# Altium integrated library Linear Technology Power Management PMIC Multifunction.IntLib: 360 symbols (part 22 of 42)
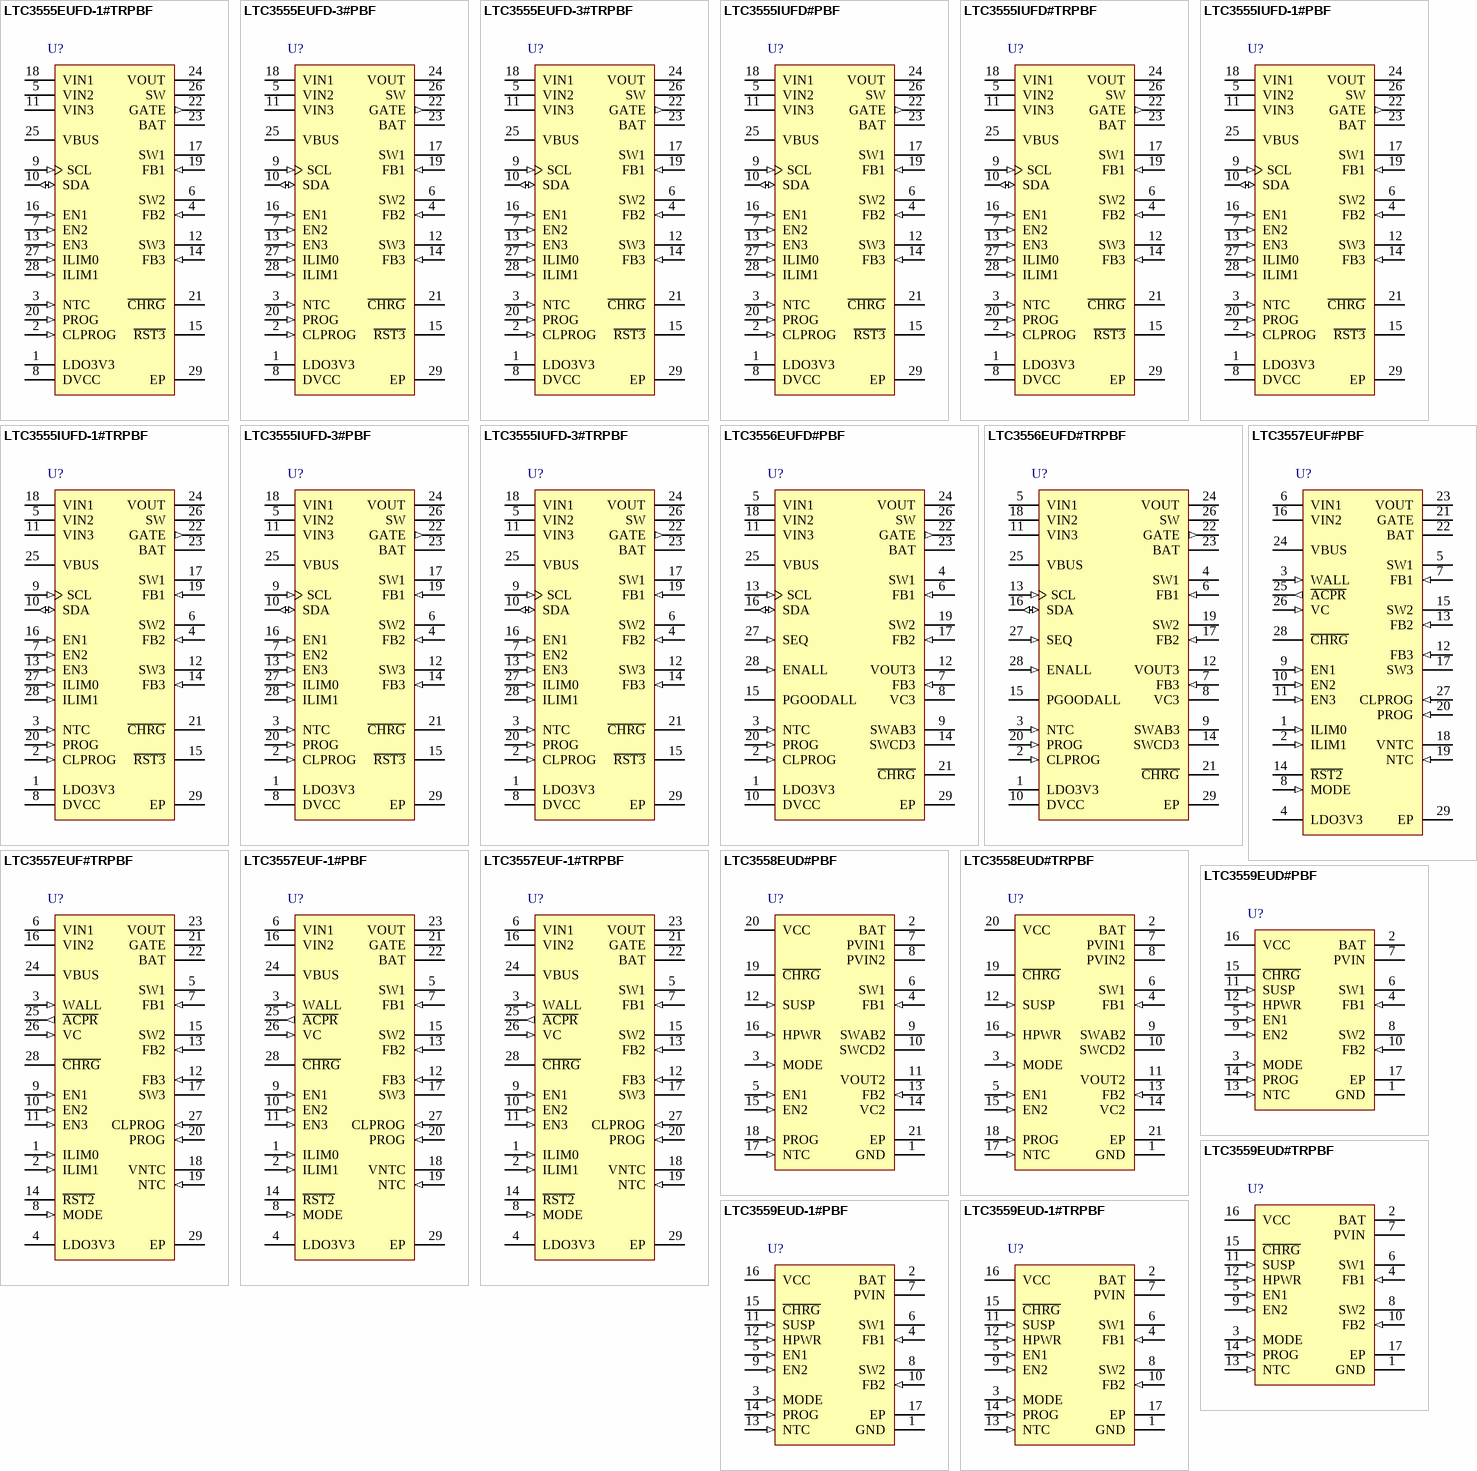
[diagram p39: symbols LTC3555EUFD-1#TRPBF to LTC3559EUD-1#TRPBF]

## LTC3555IUFD-1#PBF
designator U?
High Efficiency USB Power Manager + Triple Step-Down DC/DC, 4.35 to 5.5 V Vin, 28-pin QFN (UFD-28), -40 to 85 degC, Pb-Free; Manufacturer: Linear Technology; PartNumber: LTC3555IUFD-1#PBF; Number of Cells: 1; Number of Outputs: 4; Vin Max(V): 5.5; Vin Min(V): 4.35; DatasheetVersion: Rev. D; PackageVersion: Rev. B, 06/2010; PackageReference: UFD-28; PackageDescription: 28-Pin Plastic QFN, Body 5 x 4 mm, Pitch 0.5 mm; Supplier 1: Digi-Key; Supplier Part Number 1: LTC3555IUFD-1#PBF-ND; Supplier 2: Farnell; Supplier Part Number 2: 2295476; RoHS: TRUE; Mounting Technology: Surface Mount; Code_JEDEC: MO-220; ComponentLink1Description: Manufacturer URL; ComponentLink1URL: http://www.linear.com/; ComponentLink2Description: Datasheet; ComponentLink2URL: http://cds.linear.com/docs/en/datasheet/3555fd.pdf; ComponentLink3Description: Package Specification; ComponentLink3URL: http://cds.linear.com/docs/en/packaging/QFN_28_05-08-1712.pdf
footprint LT-UFD-28_N (QFN, 28-Leads, Body 5.1x4.1mm, Pitch 0.5mm, Thermal Pad 3.65x2.65mm, IPC Medium Density)
footprint LT-UFD-28_L (QFN, 28-Leads, Body 5.1x4.1mm, Pitch 0.5mm, Thermal Pad 3.65x2.65mm, IPC High Density)
footprint LT-UFD-28_M (QFN, 28-Leads, Body 5.1x4.1mm, Pitch 0.5mm, Thermal Pad 3.65x2.65mm, IPC Low Density)
pins: 1 LDO3V3 (power) "3.3V LDO Output Pin. This pin provides a regulated always-on 3.3V supply voltage. LDO3V3 gets its power from VOUT. It may be used for light loads such as a watchdog microprocessor or real time clock. A 1uF capacitor is (See Datasheet)", 2 CLPROG (in) "USB Current Limit Program and Monitor Pin. A resistor from CLPROG to ground determines the upper limit of the current drawn from the VBUS pin. A fraction of the VBUS current is sent to the CLPROG pin when the synchronous (See Datasheet)", 3 NTC (in) "Input to the Thermistor Monitoring Circuits. The NTC pin connects to a battery’s thermistor to determine if the battery is too hot or too cold to charge. If the battery’s temperature is out of range, charging is pau(See Datasheet)", 4 FB2 (in) "Feedback Input for Switching Regulator 2. When regulator 2’s control loop is complete, this pin servos to 1 of 16 possible set-points based on the commanded value from the I2C serial port. See Table 4.", 5 VIN2 (power) "Power Input for Switching Regulator 2. This pin will generally be connected to VOUT. A 1uF MLCC capacitor is recommended on this pin.", 6 SW2 (power) "Power Transmission Pin for Switching Regulator 2.", 7 EN2 (in) "Logic Input. This logic input pin independently enables switching regulator 2. This pin is logically OR-ed with its corresponding bit in the I2C serial port. See Table 2.", 8 DVCC (power) "Logic Supply for the I2C Serial Port. If the serial port is not needed it can be disabled by grounding DVCC. When DVCC is grounded, chip control is automatically passed to the individual logic input pins.", 9 SCL (in) "Clock Input Pin for the I2C Serial Port. The I2C logic levels are scaled with respect to DVCC. If DVCC is grounded, the SCL pin is equivalent to the B5 bit in the I2C serial port. SCL in conjunction with SDA determine the (See Datasheet)", 10 SDA (io) "Data Input Pin for the I2C Serial Port. The I2C logic levels are scaled with respect to DVCC. If DVCC is grounded, the SDA pin is equivalent to the B6 bit in the I2C serial port. SDA in conjunction with SCL determine the (See Datasheet)", 11 VIN3 (power) "Power Input for Switching Regulator 3. This pin will generally be connected to VOUT. A 1uF MLCC capacitor is recommended on this pin.", 12 SW3 (power) "Power Transmission Pin for Switching Regulator 3.", 13 EN3 (in) "Logic Input. This logic input pin independently enables switching regulator 3. This pin is logically OR-ed with its corresponding bit in the I2C serial port. See Table 2.", 14 FB3 (in) "Feedback Input for Switching Regulator 3. When regulator 3’s control loop is complete, this pin servos to 1 of 16 possible set-points based on the commanded value from the I2C serial port. See Table 4.", 15 ~{RST3} (oc) "Logic Output. This in an open-drain output which indicates that switching regulator 3 has settled to its final value. It can be used as a power-on reset for the primary microprocessor or to enable the other switching (See Datasheet)", 16 EN1 (in) "Logic Input. This logic input pin independently enables switching regulator 1. This pin is logically OR-ed with its corresponding bit in the I2C serial port. See Table 2.", 17 SW1 (power) "Power Transmission Pin for Switching Regulator 1.", 18 VIN1 (power) "Power Input for Switching Regulator 1. This pin will generally be connected to VOUT. A 1uF MLCC capacitor is recommended on this pin.", 19 FB1 (in) "Feedback Input for Switching Regulator 1. When regulator 1’s control loop is complete, this pin servos to a fixed voltage of 0.8V.", 20 PROG (in) "Charge Current Program and Charge Current Monitor Pin. Connecting a resistor from PROG to ground programs the charge current. If sufficient input power is available in constant-current mode, this pin servos to 1V. The (See Datasheet)", 21 ~{CHRG} (hiz) "Open-Drain Charge Status Output. The C\H\R\G\ pin indicates the status of the battery charger. Four possible states are represented by C\H\R\G\: charging, not charging, unresponsive battery and battery temperature out of (See Datasheet)", 22 GATE (out) "Analog Output. This pin controls the gate of an optional external P-channel MOSFET transistor used to supplement the ideal diode between VOUT and BAT. The external ideal diode operates in parallel with the internal ideal (See Datasheet)", 23 BAT (power) "Single Cell Li-Ion Battery Pin. Depending on available VBUS power, a Li-Ion battery on BAT will either deliver power to VOUT through the ideal diode or be charged from VOUT via the battery charger.", 24 VOUT (power) ""Output voltage of the Switching PowerPath Controller and Input Voltage of the Battery Charger. The majority of the portable product should be powered from VOUT. The LTC3555 family will partition the available power between (See Datasheet)", 25 VBUS (power) "Primary Input Power Pin. This pin delivers power to VOUT via the SW pin by drawing controlled current from a DC source such as a USB port or wall adapter.", 26 SW "Power Transmission Pin for the USB Power Path. The SW pin delivers power from VBUS to VOUT via the step-down switching regulator. A 3.3uH inductor should be connected from SW to VOUT.", 27 ILIM0 (in) "Logic Input. ILIM0 and ILIM1 control the current limit of the PowerPath switching regulator. See Table 3. Both of the ILIM0 and ILIM1 pins are logically OR-ed with their corresponding bits in the I2C serial port. See Table 2.", 28 ILIM1 (in) "Logic Input. ILIM0 and ILIM1 control the current limit of the PowerPath switching regulator. See Table 3. Both of the ILIM0 and ILIM1 pins are logically OR-ed with their corresponding bits in the I2C serial port. See Table 2.", 29 EP (power) "Ground. The Exposed Pad should be connected to a continuous ground plane on the second layer of the printed circuit board by several vias directly under the part."

## LTC3555IUFD-1#TRPBF
designator U?
High Efficiency USB Power Manager + Triple Step-Down DC/DC, 4.35 to 5.5 V Vin, 28-pin QFN (UFD-28), -40 to 85 degC, Pb-Free, Tape and Reel; Manufacturer: Linear Technology; PartNumber: LTC3555IUFD-1#TRPBF; Number of Cells: 1; Number of Outputs: 4; Vin Max(V): 5.5; Vin Min(V): 4.35; DatasheetVersion: Rev. D; PackageVersion: Rev. B, 06/2010; PackageReference: UFD-28; PackageDescription: 28-Pin Plastic QFN, Body 5 x 4 mm, Pitch 0.5 mm; Supplier 1: Digi-Key; Supplier Part Number 1: LTC3555IUFD-1#TRPBF-ND; Packing: Tape and Reel; RoHS: TRUE; Mounting Technology: Surface Mount; Code_JEDEC: MO-220; ComponentLink1Description: Manufacturer URL; ComponentLink1URL: http://www.linear.com/; ComponentLink2Description: Datasheet; ComponentLink2URL: http://cds.linear.com/docs/en/datasheet/3555fd.pdf; ComponentLink3Description: Package Specification; ComponentLink3URL: http://cds.linear.com/docs/en/packaging/QFN_28_05-08-1712.pdf
footprint LT-UFD-28_N (QFN, 28-Leads, Body 5.1x4.1mm, Pitch 0.5mm, Thermal Pad 3.65x2.65mm, IPC Medium Density)
footprint LT-UFD-28_L (QFN, 28-Leads, Body 5.1x4.1mm, Pitch 0.5mm, Thermal Pad 3.65x2.65mm, IPC High Density)
footprint LT-UFD-28_M (QFN, 28-Leads, Body 5.1x4.1mm, Pitch 0.5mm, Thermal Pad 3.65x2.65mm, IPC Low Density)
pins: 1 LDO3V3 (power) "3.3V LDO Output Pin. This pin provides a regulated always-on 3.3V supply voltage. LDO3V3 gets its power from VOUT. It may be used for light loads such as a watchdog microprocessor or real time clock. A 1uF capacitor is (See Datasheet)", 2 CLPROG (in) "USB Current Limit Program and Monitor Pin. A resistor from CLPROG to ground determines the upper limit of the current drawn from the VBUS pin. A fraction of the VBUS current is sent to the CLPROG pin when the synchronous (See Datasheet)", 3 NTC (in) "Input to the Thermistor Monitoring Circuits. The NTC pin connects to a battery’s thermistor to determine if the battery is too hot or too cold to charge. If the battery’s temperature is out of range, charging is pau(See Datasheet)", 4 FB2 (in) "Feedback Input for Switching Regulator 2. When regulator 2’s control loop is complete, this pin servos to 1 of 16 possible set-points based on the commanded value from the I2C serial port. See Table 4.", 5 VIN2 (power) "Power Input for Switching Regulator 2. This pin will generally be connected to VOUT. A 1uF MLCC capacitor is recommended on this pin.", 6 SW2 (power) "Power Transmission Pin for Switching Regulator 2.", 7 EN2 (in) "Logic Input. This logic input pin independently enables switching regulator 2. This pin is logically OR-ed with its corresponding bit in the I2C serial port. See Table 2.", 8 DVCC (power) "Logic Supply for the I2C Serial Port. If the serial port is not needed it can be disabled by grounding DVCC. When DVCC is grounded, chip control is automatically passed to the individual logic input pins.", 9 SCL (in) "Clock Input Pin for the I2C Serial Port. The I2C logic levels are scaled with respect to DVCC. If DVCC is grounded, the SCL pin is equivalent to the B5 bit in the I2C serial port. SCL in conjunction with SDA determine the (See Datasheet)", 10 SDA (io) "Data Input Pin for the I2C Serial Port. The I2C logic levels are scaled with respect to DVCC. If DVCC is grounded, the SDA pin is equivalent to the B6 bit in the I2C serial port. SDA in conjunction with SCL determine the (See Datasheet)", 11 VIN3 (power) "Power Input for Switching Regulator 3. This pin will generally be connected to VOUT. A 1uF MLCC capacitor is recommended on this pin.", 12 SW3 (power) "Power Transmission Pin for Switching Regulator 3.", 13 EN3 (in) "Logic Input. This logic input pin independently enables switching regulator 3. This pin is logically OR-ed with its corresponding bit in the I2C serial port. See Table 2.", 14 FB3 (in) "Feedback Input for Switching Regulator 3. When regulator 3’s control loop is complete, this pin servos to 1 of 16 possible set-points based on the commanded value from the I2C serial port. See Table 4.", 15 ~{RST3} (oc) "Logic Output. This in an open-drain output which indicates that switching regulator 3 has settled to its final value. It can be used as a power-on reset for the primary microprocessor or to enable the other switching (See Datasheet)", 16 EN1 (in) "Logic Input. This logic input pin independently enables switching regulator 1. This pin is logically OR-ed with its corresponding bit in the I2C serial port. See Table 2.", 17 SW1 (power) "Power Transmission Pin for Switching Regulator 1.", 18 VIN1 (power) "Power Input for Switching Regulator 1. This pin will generally be connected to VOUT. A 1uF MLCC capacitor is recommended on this pin.", 19 FB1 (in) "Feedback Input for Switching Regulator 1. When regulator 1’s control loop is complete, this pin servos to a fixed voltage of 0.8V.", 20 PROG (in) "Charge Current Program and Charge Current Monitor Pin. Connecting a resistor from PROG to ground programs the charge current. If sufficient input power is available in constant-current mode, this pin servos to 1V. The (See Datasheet)", 21 ~{CHRG} (hiz) "Open-Drain Charge Status Output. The C\H\R\G\ pin indicates the status of the battery charger. Four possible states are represented by C\H\R\G\: charging, not charging, unresponsive battery and battery temperature out of (See Datasheet)", 22 GATE (out) "Analog Output. This pin controls the gate of an optional external P-channel MOSFET transistor used to supplement the ideal diode between VOUT and BAT. The external ideal diode operates in parallel with the internal ideal (See Datasheet)", 23 BAT (power) "Single Cell Li-Ion Battery Pin. Depending on available VBUS power, a Li-Ion battery on BAT will either deliver power to VOUT through the ideal diode or be charged from VOUT via the battery charger.", 24 VOUT (power) ""Output voltage of the Switching PowerPath Controller and Input Voltage of the Battery Charger. The majority of the portable product should be powered from VOUT. The LTC3555 family will partition the available power between (See Datasheet)", 25 VBUS (power) "Primary Input Power Pin. This pin delivers power to VOUT via the SW pin by drawing controlled current from a DC source such as a USB port or wall adapter.", 26 SW "Power Transmission Pin for the USB Power Path. The SW pin delivers power from VBUS to VOUT via the step-down switching regulator. A 3.3uH inductor should be connected from SW to VOUT.", 27 ILIM0 (in) "Logic Input. ILIM0 and ILIM1 control the current limit of the PowerPath switching regulator. See Table 3. Both of the ILIM0 and ILIM1 pins are logically OR-ed with their corresponding bits in the I2C serial port. See Table 2.", 28 ILIM1 (in) "Logic Input. ILIM0 and ILIM1 control the current limit of the PowerPath switching regulator. See Table 3. Both of the ILIM0 and ILIM1 pins are logically OR-ed with their corresponding bits in the I2C serial port. See Table 2.", 29 EP (power) "Ground. The Exposed Pad should be connected to a continuous ground plane on the second layer of the printed circuit board by several vias directly under the part."

## LTC3555IUFD-3#PBF
designator U?
High Efficiency USB Power Manager + Triple Step-Down DC/DC, 4.35 to 5.5 V Vin, 28-pin QFN (UFD-28), -40 to 85 degC, Pb-Free; Manufacturer: Linear Technology; PartNumber: LTC3555IUFD-3#PBF; Number of Cells: 1; Number of Outputs: 4; Vin Max(V): 5.5; Vin Min(V): 4.35; DatasheetVersion: Rev. D; PackageVersion: Rev. B, 06/2010; PackageReference: UFD-28; PackageDescription: 28-Pin Plastic QFN, Body 5 x 4 mm, Pitch 0.5 mm; Supplier 1: Digi-Key; Supplier Part Number 1: LTC3555IUFD-3#PBF-ND; RoHS: TRUE; Mounting Technology: Surface Mount; Code_JEDEC: MO-220; ComponentLink1Description: Manufacturer URL; ComponentLink1URL: http://www.linear.com/; ComponentLink2Description: Datasheet; ComponentLink2URL: http://cds.linear.com/docs/en/datasheet/3555fd.pdf; ComponentLink3Description: Package Specification; ComponentLink3URL: http://cds.linear.com/docs/en/packaging/QFN_28_05-08-1712.pdf
footprint LT-UFD-28_N (QFN, 28-Leads, Body 5.1x4.1mm, Pitch 0.5mm, Thermal Pad 3.65x2.65mm, IPC Medium Density)
footprint LT-UFD-28_L (QFN, 28-Leads, Body 5.1x4.1mm, Pitch 0.5mm, Thermal Pad 3.65x2.65mm, IPC High Density)
footprint LT-UFD-28_M (QFN, 28-Leads, Body 5.1x4.1mm, Pitch 0.5mm, Thermal Pad 3.65x2.65mm, IPC Low Density)
pins: 1 LDO3V3 (power) "3.3V LDO Output Pin. This pin provides a regulated always-on 3.3V supply voltage. LDO3V3 gets its power from VOUT. It may be used for light loads such as a watchdog microprocessor or real time clock. A 1uF capacitor is (See Datasheet)", 2 CLPROG (in) "USB Current Limit Program and Monitor Pin. A resistor from CLPROG to ground determines the upper limit of the current drawn from the VBUS pin. A fraction of the VBUS current is sent to the CLPROG pin when the synchronous (See Datasheet)", 3 NTC (in) "Input to the Thermistor Monitoring Circuits. The NTC pin connects to a battery’s thermistor to determine if the battery is too hot or too cold to charge. If the battery’s temperature is out of range, charging is pau(See Datasheet)", 4 FB2 (in) "Feedback Input for Switching Regulator 2. When regulator 2’s control loop is complete, this pin servos to 1 of 16 possible set-points based on the commanded value from the I2C serial port. See Table 4.", 5 VIN2 (power) "Power Input for Switching Regulator 2. This pin will generally be connected to VOUT. A 1uF MLCC capacitor is recommended on this pin.", 6 SW2 (power) "Power Transmission Pin for Switching Regulator 2.", 7 EN2 (in) "Logic Input. This logic input pin independently enables switching regulator 2. This pin is logically OR-ed with its corresponding bit in the I2C serial port. See Table 2.", 8 DVCC (power) "Logic Supply for the I2C Serial Port. If the serial port is not needed it can be disabled by grounding DVCC. When DVCC is grounded, chip control is automatically passed to the individual logic input pins.", 9 SCL (in) "Clock Input Pin for the I2C Serial Port. The I2C logic levels are scaled with respect to DVCC. If DVCC is grounded, the SCL pin is equivalent to the B5 bit in the I2C serial port. SCL in conjunction with SDA determine the (See Datasheet)", 10 SDA (io) "Data Input Pin for the I2C Serial Port. The I2C logic levels are scaled with respect to DVCC. If DVCC is grounded, the SDA pin is equivalent to the B6 bit in the I2C serial port. SDA in conjunction with SCL determine the (See Datasheet)", 11 VIN3 (power) "Power Input for Switching Regulator 3. This pin will generally be connected to VOUT. A 1uF MLCC capacitor is recommended on this pin.", 12 SW3 (power) "Power Transmission Pin for Switching Regulator 3.", 13 EN3 (in) "Logic Input. This logic input pin independently enables switching regulator 3. This pin is logically OR-ed with its corresponding bit in the I2C serial port. See Table 2.", 14 FB3 (in) "Feedback Input for Switching Regulator 3. When regulator 3’s control loop is complete, this pin servos to 1 of 16 possible set-points based on the commanded value from the I2C serial port. See Table 4.", 15 ~{RST3} (oc) "Logic Output. This in an open-drain output which indicates that switching regulator 3 has settled to its final value. It can be used as a power-on reset for the primary microprocessor or to enable the other switching (See Datasheet)", 16 EN1 (in) "Logic Input. This logic input pin independently enables switching regulator 1. This pin is logically OR-ed with its corresponding bit in the I2C serial port. See Table 2.", 17 SW1 (power) "Power Transmission Pin for Switching Regulator 1.", 18 VIN1 (power) "Power Input for Switching Regulator 1. This pin will generally be connected to VOUT. A 1uF MLCC capacitor is recommended on this pin.", 19 FB1 (in) "Feedback Input for Switching Regulator 1. When regulator 1’s control loop is complete, this pin servos to a fixed voltage of 0.8V.", 20 PROG (in) "Charge Current Program and Charge Current Monitor Pin. Connecting a resistor from PROG to ground programs the charge current. If sufficient input power is available in constant-current mode, this pin servos to 1V. The (See Datasheet)", 21 ~{CHRG} (hiz) "Open-Drain Charge Status Output. The C\H\R\G\ pin indicates the status of the battery charger. Four possible states are represented by C\H\R\G\: charging, not charging, unresponsive battery and battery temperature out of (See Datasheet)", 22 GATE (out) "Analog Output. This pin controls the gate of an optional external P-channel MOSFET transistor used to supplement the ideal diode between VOUT and BAT. The external ideal diode operates in parallel with the internal ideal (See Datasheet)", 23 BAT (power) "Single Cell Li-Ion Battery Pin. Depending on available VBUS power, a Li-Ion battery on BAT will either deliver power to VOUT through the ideal diode or be charged from VOUT via the battery charger.", 24 VOUT (power) ""Output voltage of the Switching PowerPath Controller and Input Voltage of the Battery Charger. The majority of the portable product should be powered from VOUT. The LTC3555 family will partition the available power between (See Datasheet)", 25 VBUS (power) "Primary Input Power Pin. This pin delivers power to VOUT via the SW pin by drawing controlled current from a DC source such as a USB port or wall adapter.", 26 SW "Power Transmission Pin for the USB Power Path. The SW pin delivers power from VBUS to VOUT via the step-down switching regulator. A 3.3uH inductor should be connected from SW to VOUT.", 27 ILIM0 (in) "Logic Input. ILIM0 and ILIM1 control the current limit of the PowerPath switching regulator. See Table 3. Both of the ILIM0 and ILIM1 pins are logically OR-ed with their corresponding bits in the I2C serial port. See Table 2.", 28 ILIM1 (in) "Logic Input. ILIM0 and ILIM1 control the current limit of the PowerPath switching regulator. See Table 3. Both of the ILIM0 and ILIM1 pins are logically OR-ed with their corresponding bits in the I2C serial port. See Table 2.", 29 EP (power) "Ground. The Exposed Pad should be connected to a continuous ground plane on the second layer of the printed circuit board by several vias directly under the part."

## LTC3555IUFD-3#TRPBF
designator U?
High Efficiency USB Power Manager + Triple Step-Down DC/DC, 4.35 to 5.5 V Vin, 28-pin QFN (UFD-28), -40 to 85 degC, Pb-Free, Tape and Reel; Manufacturer: Linear Technology; PartNumber: LTC3555IUFD-3#TRPBF; Number of Cells: 1; Number of Outputs: 4; Vin Max(V): 5.5; Vin Min(V): 4.35; DatasheetVersion: Rev. D; PackageVersion: Rev. B, 06/2010; PackageReference: UFD-28; PackageDescription: 28-Pin Plastic QFN, Body 5 x 4 mm, Pitch 0.5 mm; Supplier 1: Digi-Key; Supplier Part Number 1: LTC3555IUFD-3#TRPBF-ND; Packing: Tape and Reel; RoHS: TRUE; Mounting Technology: Surface Mount; Code_JEDEC: MO-220; ComponentLink1Description: Manufacturer URL; ComponentLink1URL: http://www.linear.com/; ComponentLink2Description: Datasheet; ComponentLink2URL: http://cds.linear.com/docs/en/datasheet/3555fd.pdf; ComponentLink3Description: Package Specification; ComponentLink3URL: http://cds.linear.com/docs/en/packaging/QFN_28_05-08-1712.pdf
footprint LT-UFD-28_N (QFN, 28-Leads, Body 5.1x4.1mm, Pitch 0.5mm, Thermal Pad 3.65x2.65mm, IPC Medium Density)
footprint LT-UFD-28_L (QFN, 28-Leads, Body 5.1x4.1mm, Pitch 0.5mm, Thermal Pad 3.65x2.65mm, IPC High Density)
footprint LT-UFD-28_M (QFN, 28-Leads, Body 5.1x4.1mm, Pitch 0.5mm, Thermal Pad 3.65x2.65mm, IPC Low Density)
pins: 1 LDO3V3 (power) "3.3V LDO Output Pin. This pin provides a regulated always-on 3.3V supply voltage. LDO3V3 gets its power from VOUT. It may be used for light loads such as a watchdog microprocessor or real time clock. A 1uF capacitor is (See Datasheet)", 2 CLPROG (in) "USB Current Limit Program and Monitor Pin. A resistor from CLPROG to ground determines the upper limit of the current drawn from the VBUS pin. A fraction of the VBUS current is sent to the CLPROG pin when the synchronous (See Datasheet)", 3 NTC (in) "Input to the Thermistor Monitoring Circuits. The NTC pin connects to a battery’s thermistor to determine if the battery is too hot or too cold to charge. If the battery’s temperature is out of range, charging is pau(See Datasheet)", 4 FB2 (in) "Feedback Input for Switching Regulator 2. When regulator 2’s control loop is complete, this pin servos to 1 of 16 possible set-points based on the commanded value from the I2C serial port. See Table 4.", 5 VIN2 (power) "Power Input for Switching Regulator 2. This pin will generally be connected to VOUT. A 1uF MLCC capacitor is recommended on this pin.", 6 SW2 (power) "Power Transmission Pin for Switching Regulator 2.", 7 EN2 (in) "Logic Input. This logic input pin independently enables switching regulator 2. This pin is logically OR-ed with its corresponding bit in the I2C serial port. See Table 2.", 8 DVCC (power) "Logic Supply for the I2C Serial Port. If the serial port is not needed it can be disabled by grounding DVCC. When DVCC is grounded, chip control is automatically passed to the individual logic input pins.", 9 SCL (in) "Clock Input Pin for the I2C Serial Port. The I2C logic levels are scaled with respect to DVCC. If DVCC is grounded, the SCL pin is equivalent to the B5 bit in the I2C serial port. SCL in conjunction with SDA determine the (See Datasheet)", 10 SDA (io) "Data Input Pin for the I2C Serial Port. The I2C logic levels are scaled with respect to DVCC. If DVCC is grounded, the SDA pin is equivalent to the B6 bit in the I2C serial port. SDA in conjunction with SCL determine the (See Datasheet)", 11 VIN3 (power) "Power Input for Switching Regulator 3. This pin will generally be connected to VOUT. A 1uF MLCC capacitor is recommended on this pin.", 12 SW3 (power) "Power Transmission Pin for Switching Regulator 3.", 13 EN3 (in) "Logic Input. This logic input pin independently enables switching regulator 3. This pin is logically OR-ed with its corresponding bit in the I2C serial port. See Table 2.", 14 FB3 (in) "Feedback Input for Switching Regulator 3. When regulator 3’s control loop is complete, this pin servos to 1 of 16 possible set-points based on the commanded value from the I2C serial port. See Table 4.", 15 ~{RST3} (oc) "Logic Output. This in an open-drain output which indicates that switching regulator 3 has settled to its final value. It can be used as a power-on reset for the primary microprocessor or to enable the other switching (See Datasheet)", 16 EN1 (in) "Logic Input. This logic input pin independently enables switching regulator 1. This pin is logically OR-ed with its corresponding bit in the I2C serial port. See Table 2.", 17 SW1 (power) "Power Transmission Pin for Switching Regulator 1.", 18 VIN1 (power) "Power Input for Switching Regulator 1. This pin will generally be connected to VOUT. A 1uF MLCC capacitor is recommended on this pin.", 19 FB1 (in) "Feedback Input for Switching Regulator 1. When regulator 1’s control loop is complete, this pin servos to a fixed voltage of 0.8V.", 20 PROG (in) "Charge Current Program and Charge Current Monitor Pin. Connecting a resistor from PROG to ground programs the charge current. If sufficient input power is available in constant-current mode, this pin servos to 1V. The (See Datasheet)", 21 ~{CHRG} (hiz) "Open-Drain Charge Status Output. The C\H\R\G\ pin indicates the status of the battery charger. Four possible states are represented by C\H\R\G\: charging, not charging, unresponsive battery and battery temperature out of (See Datasheet)", 22 GATE (out) "Analog Output. This pin controls the gate of an optional external P-channel MOSFET transistor used to supplement the ideal diode between VOUT and BAT. The external ideal diode operates in parallel with the internal ideal (See Datasheet)", 23 BAT (power) "Single Cell Li-Ion Battery Pin. Depending on available VBUS power, a Li-Ion battery on BAT will either deliver power to VOUT through the ideal diode or be charged from VOUT via the battery charger.", 24 VOUT (power) ""Output voltage of the Switching PowerPath Controller and Input Voltage of the Battery Charger. The majority of the portable product should be powered from VOUT. The LTC3555 family will partition the available power between (See Datasheet)", 25 VBUS (power) "Primary Input Power Pin. This pin delivers power to VOUT via the SW pin by drawing controlled current from a DC source such as a USB port or wall adapter.", 26 SW "Power Transmission Pin for the USB Power Path. The SW pin delivers power from VBUS to VOUT via the step-down switching regulator. A 3.3uH inductor should be connected from SW to VOUT.", 27 ILIM0 (in) "Logic Input. ILIM0 and ILIM1 control the current limit of the PowerPath switching regulator. See Table 3. Both of the ILIM0 and ILIM1 pins are logically OR-ed with their corresponding bits in the I2C serial port. See Table 2.", 28 ILIM1 (in) "Logic Input. ILIM0 and ILIM1 control the current limit of the PowerPath switching regulator. See Table 3. Both of the ILIM0 and ILIM1 pins are logically OR-ed with their corresponding bits in the I2C serial port. See Table 2.", 29 EP (power) "Ground. The Exposed Pad should be connected to a continuous ground plane on the second layer of the printed circuit board by several vias directly under the part."

## LTC3556EUFD#PBF
designator U?
High Efficiency USB Power Manager with Dual Buck and Buck-Boost DC/DC, 4.35 to 5.5 V Vin, 28-pin QFN (UFD-28), -40 to 85 degC, Pb-Free; Manufacturer: Linear Technology; PartNumber: LTC3556EUFD#PBF; Number of Cells: 1; Number of Outputs: 3; Vin Max(V): 5.5; Vin Min(V): 4.35; PackageVersion: Rev. B, 06/2010; PackageReference: UFD-28; PackageDescription: 28-Pin Plastic QFN, Body 5 x 4 mm, Pitch 0.5 mm; Supplier 1: Digi-Key; Supplier Part Number 1: LTC3556EUFD#PBF-ND; Supplier 2: Newark; Supplier Part Number 2: 88M1912; RoHS: TRUE; Mounting Technology: Surface Mount; Code_JEDEC: MO-220; ComponentLink1Description: Manufacturer URL; ComponentLink1URL: http://www.linear.com/; ComponentLink2Description: Datasheet; ComponentLink2URL: http://cds.linear.com/docs/en/datasheet/3556f.pdf; ComponentLink3Description: Package Specification; ComponentLink3URL: http://cds.linear.com/docs/en/packaging/QFN_28_05-08-1712.pdf
footprint LT-UFD-28_N (QFN, 28-Leads, Body 5.1x4.1mm, Pitch 0.5mm, Thermal Pad 3.65x2.65mm, IPC Medium Density)
footprint LT-UFD-28_L (QFN, 28-Leads, Body 5.1x4.1mm, Pitch 0.5mm, Thermal Pad 3.65x2.65mm, IPC High Density)
footprint LT-UFD-28_M (QFN, 28-Leads, Body 5.1x4.1mm, Pitch 0.5mm, Thermal Pad 3.65x2.65mm, IPC Low Density)
pins: 1 LDO3V3 (power) "3.3V LDO Output Pin. This pin provides a regulated, always-on, 3.3V supply voltage. LDO3V3 gets its power from VOUT. It may be used for light loads such as a watchdog microprocessor or real time clock. A 1uF capacitor is (See Datasheet)", 2 CLPROG (in) "USB Current Limit Program and Monitor Pin. A resistor from CLPROG to ground determines the upper limit of the current drawn from the VBUS pin. A fraction of the VBUS current is sent to the CLPROG pin when the synchronous (See Datasheet)", 3 NTC (in) "Input to the Thermistor Monitoring Circuits. The NTC pin connects to a battery’s thermistor to determine if the battery is too hot or too cold to charge. If the battery’s temperature is out of range, charging is pau(See Datasheet)", 4 SW1 (power) "Power Transmission Pin for (Buck) Switching Regulator 1.", 5 VIN1 (power) "Power Input for (Buck) Switching Regulator 1. This pin will generally be connected to VOUT. A 1uF MLCC capacitor is recommended on this pin.", 6 FB1 (in) "Feedback Input for (Buck) Switching Regulator 1. When regulator 1’s control loop is complete, this pin servos to 1 of 16 possible set-points based on the commanded value from the I2C serial port. See Table 4.", 7 FB3 (in) "Feedback Input for (Buck-Boost) Switching Regulator 3. When regulator 3’s control loop is complete, this pin servos to 1 of 16 possible set-points based on the commanded value from the I2C serial port. See Table 4.", 8 VC3 "Output of the Error Amplifi er and Voltage Compensation Node for (Buck-Boost) Switching Regulator 3. External Type I or Type III compensation (to FB3) connects to this pin. See Applications Information section for selecting (See Datasheet)", 9 SWAB3 "Switch Node for (Buck-Boost) Switching Regulator 3. Connected to internal power switches A and B. External inductor connects between this node and SWCD3.", 10 DVCC (power) "Logic Supply for the I2C Serial Port.", 11 VIN3 (power) "Power Input for (Buck-Boost) Switching Regulator 3. This pin will generally be connected to VOUT. A 1uF (min) MLCC capacitor is recommended on this pin.", 12 VOUT3 (power) "Regulated Output Voltage for (Buck-Boost) Switching Regulator 3.", 13 SCL (in) "Clock Input Pin for the I2C Serial Port. The I2C logic levels are scaled with respect to DVCC.", 14 SWCD3 "Switch Node for (Buck-Boost) Switching Regulator 3. Connected to internal power switches C and D. External inductor connects between this node and SWAB3.", 15 PGOODALL (oc) "Logic Output. This in an open-drain output which indicates that all enabled switching regulators have settled to their final value. It can be used as a power-on reset for the primary microprocessor.", 16 SDA (io) "Data Input Pin for the I2C Serial Port. The I2C logic levels are scaled with respect to DVCC.", 17 FB2 (in) "Feedback Input for (Buck) Switching Regulator 2. When regulator 2’s control loop is complete, this pin servos to a fixed voltage of 0.8V.", 18 VIN2 (power) "Power Input for (Buck) Switching Regulator 2. This pin will generally be connected to VOUT. A 1uF MLCC capacitor is recommended on this pin.", 19 SW2 (power) "Power Transmission Pin for (Buck) Switching Regulator 2.", 20 PROG (in) "Charge Current Program and Charge Current Monitor Pin. Connecting a resistor from PROG to ground programs the charge current. If sufficient input power is available in constant-current mode, this pin servos to 1V. The (See Datasheet)", 21 ~{CHRG} (hiz) "Open-Drain Charge Status Output. The C\H\R\G\ pin indicates the status of the battery charger. Four possible states are represented by C\H\R\G\: charging, not charging, unresponsive battery and battery temperature out of (See Datasheet)", 22 GATE (out) "Analog Output. This pin controls the gate of an optional external P-channel MOSFET transistor used to supplement the ideal diode between VOUT and BAT. The external ideal diode operates in parallel with the internal ideal (See Datasheet)", 23 BAT (power) "Single Cell Li-Ion Battery Pin. Depending on available VBUS power, a Li-Ion battery on BAT will either deliver power to VOUT through the ideal diode or be charged from VOUT via the battery charger.", 24 VOUT (power) "Output Voltage of the Switching Power-Path Controller and Input Voltage of the Battery Charger. The majority of the portable product should be powered from VOUT. The LTC3556 will partition the available power between the (See Datasheet)", 25 VBUS (power) "Primary Input Power Pin. This pin delivers power to VOUT via the SW pin by drawing controlled current from a DC source such as a USB port or wall adapter.", 26 SW (power) "Power Transmission Pin for the USB Power Path. The SW pin delivers power from VBUS to VOUT via the step-down switching regulator. A 3.3uH inductor should be connected from SW to VOUT.", 27 SEQ (in) "Sequence Select Logic Input. Three-state input which determines start-up sequence after ENALL is asserted.", 28 ENALL (in) "Enable All Logic Input. Enables all three switching regulators in sequence according to the state of the SEQ pin. Active high. Has a 5.5M internal pull-down resistor. Alternately, all switching regulators can be individually (See Datasheet)", 29 EP (power) "Ground. The Exposed Pad should be connected to a continuous ground plane on the second layer of the printed circuit board by several vias directly under the LTC3556."

## LTC3556EUFD#TRPBF
designator U?
High Efficiency USB Power Manager with Dual Buck and Buck-Boost DC/DC, 4.35 to 5.5 V Vin, 28-pin QFN (UFD-28), -40 to 85 degC, Pb-Free, Tape and Reel; Manufacturer: Linear Technology; PartNumber: LTC3556EUFD#TRPBF; Number of Cells: 1; Number of Outputs: 3; Vin Max(V): 5.5; Vin Min(V): 4.35; PackageVersion: Rev. B, 06/2010; PackageReference: UFD-28; PackageDescription: 28-Pin Plastic QFN, Body 5 x 4 mm, Pitch 0.5 mm; Supplier 1: Digi-Key; Supplier Part Number 1: LTC3556EUFD#TRPBF-ND; Packing: Tape and Reel; RoHS: TRUE; Mounting Technology: Surface Mount; Code_JEDEC: MO-220; ComponentLink1Description: Manufacturer URL; ComponentLink1URL: http://www.linear.com/; ComponentLink2Description: Datasheet; ComponentLink2URL: http://cds.linear.com/docs/en/datasheet/3556f.pdf; ComponentLink3Description: Package Specification; ComponentLink3URL: http://cds.linear.com/docs/en/packaging/QFN_28_05-08-1712.pdf
footprint LT-UFD-28_N (QFN, 28-Leads, Body 5.1x4.1mm, Pitch 0.5mm, Thermal Pad 3.65x2.65mm, IPC Medium Density)
footprint LT-UFD-28_L (QFN, 28-Leads, Body 5.1x4.1mm, Pitch 0.5mm, Thermal Pad 3.65x2.65mm, IPC High Density)
footprint LT-UFD-28_M (QFN, 28-Leads, Body 5.1x4.1mm, Pitch 0.5mm, Thermal Pad 3.65x2.65mm, IPC Low Density)
pins: 1 LDO3V3 (power) "3.3V LDO Output Pin. This pin provides a regulated, always-on, 3.3V supply voltage. LDO3V3 gets its power from VOUT. It may be used for light loads such as a watchdog microprocessor or real time clock. A 1uF capacitor is (See Datasheet)", 2 CLPROG (in) "USB Current Limit Program and Monitor Pin. A resistor from CLPROG to ground determines the upper limit of the current drawn from the VBUS pin. A fraction of the VBUS current is sent to the CLPROG pin when the synchronous (See Datasheet)", 3 NTC (in) "Input to the Thermistor Monitoring Circuits. The NTC pin connects to a battery’s thermistor to determine if the battery is too hot or too cold to charge. If the battery’s temperature is out of range, charging is pau(See Datasheet)", 4 SW1 (power) "Power Transmission Pin for (Buck) Switching Regulator 1.", 5 VIN1 (power) "Power Input for (Buck) Switching Regulator 1. This pin will generally be connected to VOUT. A 1uF MLCC capacitor is recommended on this pin.", 6 FB1 (in) "Feedback Input for (Buck) Switching Regulator 1. When regulator 1’s control loop is complete, this pin servos to 1 of 16 possible set-points based on the commanded value from the I2C serial port. See Table 4.", 7 FB3 (in) "Feedback Input for (Buck-Boost) Switching Regulator 3. When regulator 3’s control loop is complete, this pin servos to 1 of 16 possible set-points based on the commanded value from the I2C serial port. See Table 4.", 8 VC3 "Output of the Error Amplifi er and Voltage Compensation Node for (Buck-Boost) Switching Regulator 3. External Type I or Type III compensation (to FB3) connects to this pin. See Applications Information section for selecting (See Datasheet)", 9 SWAB3 "Switch Node for (Buck-Boost) Switching Regulator 3. Connected to internal power switches A and B. External inductor connects between this node and SWCD3.", 10 DVCC (power) "Logic Supply for the I2C Serial Port.", 11 VIN3 (power) "Power Input for (Buck-Boost) Switching Regulator 3. This pin will generally be connected to VOUT. A 1uF (min) MLCC capacitor is recommended on this pin.", 12 VOUT3 (power) "Regulated Output Voltage for (Buck-Boost) Switching Regulator 3.", 13 SCL (in) "Clock Input Pin for the I2C Serial Port. The I2C logic levels are scaled with respect to DVCC.", 14 SWCD3 "Switch Node for (Buck-Boost) Switching Regulator 3. Connected to internal power switches C and D. External inductor connects between this node and SWAB3.", 15 PGOODALL (oc) "Logic Output. This in an open-drain output which indicates that all enabled switching regulators have settled to their final value. It can be used as a power-on reset for the primary microprocessor.", 16 SDA (io) "Data Input Pin for the I2C Serial Port. The I2C logic levels are scaled with respect to DVCC.", 17 FB2 (in) "Feedback Input for (Buck) Switching Regulator 2. When regulator 2’s control loop is complete, this pin servos to a fixed voltage of 0.8V.", 18 VIN2 (power) "Power Input for (Buck) Switching Regulator 2. This pin will generally be connected to VOUT. A 1uF MLCC capacitor is recommended on this pin.", 19 SW2 (power) "Power Transmission Pin for (Buck) Switching Regulator 2.", 20 PROG (in) "Charge Current Program and Charge Current Monitor Pin. Connecting a resistor from PROG to ground programs the charge current. If sufficient input power is available in constant-current mode, this pin servos to 1V. The (See Datasheet)", 21 ~{CHRG} (hiz) "Open-Drain Charge Status Output. The C\H\R\G\ pin indicates the status of the battery charger. Four possible states are represented by C\H\R\G\: charging, not charging, unresponsive battery and battery temperature out of (See Datasheet)", 22 GATE (out) "Analog Output. This pin controls the gate of an optional external P-channel MOSFET transistor used to supplement the ideal diode between VOUT and BAT. The external ideal diode operates in parallel with the internal ideal (See Datasheet)", 23 BAT (power) "Single Cell Li-Ion Battery Pin. Depending on available VBUS power, a Li-Ion battery on BAT will either deliver power to VOUT through the ideal diode or be charged from VOUT via the battery charger.", 24 VOUT (power) "Output Voltage of the Switching Power-Path Controller and Input Voltage of the Battery Charger. The majority of the portable product should be powered from VOUT. The LTC3556 will partition the available power between the (See Datasheet)", 25 VBUS (power) "Primary Input Power Pin. This pin delivers power to VOUT via the SW pin by drawing controlled current from a DC source such as a USB port or wall adapter.", 26 SW (power) "Power Transmission Pin for the USB Power Path. The SW pin delivers power from VBUS to VOUT via the step-down switching regulator. A 3.3uH inductor should be connected from SW to VOUT.", 27 SEQ (in) "Sequence Select Logic Input. Three-state input which determines start-up sequence after ENALL is asserted.", 28 ENALL (in) "Enable All Logic Input. Enables all three switching regulators in sequence according to the state of the SEQ pin. Active high. Has a 5.5M internal pull-down resistor. Alternately, all switching regulators can be individually (See Datasheet)", 29 EP (power) "Ground. The Exposed Pad should be connected to a continuous ground plane on the second layer of the printed circuit board by several vias directly under the LTC3556."

## LTC3557EUF#PBF
designator U?
USB Power Manager with Li-Ion Charger and Three Step Down Regulator, 2.7 to 5.5 V Vin, 28-pin QFN (UF-28), -40 to 85 degC, Pb-Free; Manufacturer: Linear Technology; PartNumber: LTC3557EUF#PBF; Number of Cells: 1; Number of Outputs: 4; Vin Max(V): 5.5; Vin Min(V): 2.7; DatasheetVersion: Rev. C; PackageVersion: Rev. A, 06/2010; PackageReference: UF-28; PackageDescription: 28-Pin Plastic QFN, Body 4 x 4 mm, Pitch 0.4 mm; Supplier 1: Digi-Key; Supplier Part Number 1: LTC3557EUF#PBF-ND; Supplier 2: Farnell; Supplier Part Number 2: 1663714; RoHS: TRUE; Mounting Technology: Surface Mount; ComponentLink1Description: Manufacturer URL; ComponentLink1URL: http://www.linear.com/; ComponentLink2Description: Datasheet; ComponentLink2URL: http://cds.linear.com/docs/en/datasheet/35571fc.pdf; ComponentLink3Description: Package Specification; ComponentLink3URL: http://cds.linear.com/docs/en/packaging/QFN_28_05-08-1721.pdf
footprint LT-UF-28_N (QFN, 28-Leads, Body 4.1x4.1mm, Pitch 0.4mm, Thermal Pad 2.64x2.64mm, IPC Medium Density)
footprint LT-UF-28_L (QFN, 28-Leads, Body 4.1x4.1mm, Pitch 0.4mm, Thermal Pad 2.64x2.64mm, IPC High Density)
footprint LT-UF-28_M (QFN, 28-Leads, Body 4.1x4.1mm, Pitch 0.4mm, Thermal Pad 2.64x2.64mm, IPC Low Density)
pins: 1 ILIM0 (in) "Input Current Control Pins. ILIM0 and ILIM1 control the input current limit. See Table 1. Both pins are pulled low by a weak current sink.", 2 ILIM1 (in) "Input Current Control Pins. ILIM0 and ILIM1 control the input current limit. See Table 1. Both pins are pulled low by a weak current sink.", 3 WALL (in) "Wall Adapter Present Input. Pulling this pin above 4.3V will disconnect the power path from VBUS to VOUT. The A\C\P\R\ pin will also be pulled low to indicate that a wall adapter has been detected.", 4 LDO3V3 (power) "Always On 3.3V LDO Output. The LDO3V3 pin provides a regulated, always-on 3.3V supply voltage. This pin gets its power from VOUT. It may be used for light loads such as a real-time clock or housekeeping microprocessor. A 1uF (See Datasheet)", 5 SW1 (power) "Power Transmission (Switch) Pin for Step-Down Switching Regulator 1.", 6 VIN1 (power) "Power Input for Step-Down Switching Regulator 1. This pin will generally be connected to VOUT.", 7 FB1 (in) "Feedback Input for Step-Down Switching Regulator 1. This pin servos to a fixed voltage of 0.8V when the control loop is complete.", 8 MODE (in) "Low Power Mode Enable. When this pin is pulled high, the three step-down switching regulators are set to low power Burst Mode operation.", 9 EN1 (in) "Logic Input Enables Step-Down Switching Regulator 1.", 10 EN2 (in) "Logic Input Enables Step-Down Switching Regulator 2.", 11 EN3 (in) "Logic Input Enables Step-Down Switching Regulator 3.", 12 FB3 (in) "Feedback Input for Step-Down Switching Regulator 3. This pin servos to a fixed voltage of 0.8V when the control loop is complete.", 13 FB2 (in) "Feedback Input for Step-Down Switching Regulator 2. This pin servos to a fixed voltage of 0.8V when the control loop is complete.", 14 ~{RST2} (oc) "This is an open-drain output which indicates that step-down switching regulator 2 has settled to its final value. It can be used as a power on reset for the primary microprocessor or to enable the other buck regulators for (See Datasheet)", 15 SW2 (power) "Power Transmission (Switch) Pin for Step-Down Switching Regulator 2.", 16 VIN2 (power) "Power Input for Step-Down Switching Regulators 2 and 3. This pin will generally be connected to VOUT.", 17 SW3 (power) "Power Transmission (Switch) Pin for Step-Down Switching Regulator 3.", 18 VNTC "Output Bias Voltage for NTC. A resistor from this pin to the NTC pin will bias the NTC thermistor.", 19 NTC (in) "The NTC pin connects to a battery’s thermistor to determine if the battery is too hot or too cold to charge. If the battery’s temperature is out of range, charging is paused until it drops back into range. A low dr(See Datasheet)", 20 PROG (in) "Charge Current Program and Charge Current Monitor Pin. Connecting a resistor from PROG to ground programs the charge current: ICHG(A)= 1000V RPROG If suffi cient input power is available in constant current mode, this pin (See Datasheet)", 21 GATE (hiz) "Ideal Diode Gate Connection. This pin controls the gate of an optional external P-channel MOSFET transistor used to supplement the internal ideal diode. The source of the P-channel MOSFET should be connected to VOUT and the (See Datasheet)", 22 BAT (power) "Single Cell Li-Ion Battery Pin. Depending on available power and load, a Li-Ion battery on BAT will either deliver system power to VOUT through the ideal diode or be charged from the battery charger.", 23 VOUT (power) "Output Voltage of the PowerPath Controller and Input Voltage of the Battery Charger. The majority of the portable product should be powered from VOUT. The LTC3557/LTC3557-1 will partition the available power between the (See Datasheet)", 24 VBUS (power) "USB Input Voltage. VBUS will usually be connected to the USB port of a computer or a DC output wall adapter. VBUS should be bypassed with a low impedance multilayer ceramic capacitor.", 25 ~{ACPR} (out) "Wall Adapter Present Output (Active Low). A low on this pin indicates that the wall adapter input comparator has had its input pulled above its input threshold (typically 4.3V). This pin can be used to drive the gate of an (See Datasheet)", 26 VC (in) "High Voltage Buck Regulator Control Pin. This pin can be used to drive the VC pin of an approved external high voltage buck switching regulator. An external P-channel MOSFET is required to provide power to VOUT with its gate (See Datasheet)", 27 CLPROG (in) "Input Current Program and Input Current Monitor Pin. A resistor from CLPROG to ground determines the upper limit of the current drawn from the VBUS pin (i.e., the input current limit). A precise fraction of the input (See Datasheet)", 28 ~{CHRG} (hiz) "Open-Drain Charge Status Output. The C\H\R\G\ pin indicates the status of the battery charger. Four possible states are represented by C\H\R\G\: charging, not charging (i.e., float charge current less than 1/10th programmed (See Datasheet)", 29 EP (power) "Ground. The exposed package pad is ground and must be soldered to the PC board for proper functionality and for maximum heat transfer."